# Altium footprint library PcbLib1.PcbLib: 4 footprints
Each footprint in its own frame and in the unit in brackets; x right, y up, seen from the top. Pads: shape width x height; smd on the part's side, far side on the other; paste and mask are expansions set on the pad; w line width, h text height; cw(c..) or ccw(c..) is an arc to the next point about the centre after c.
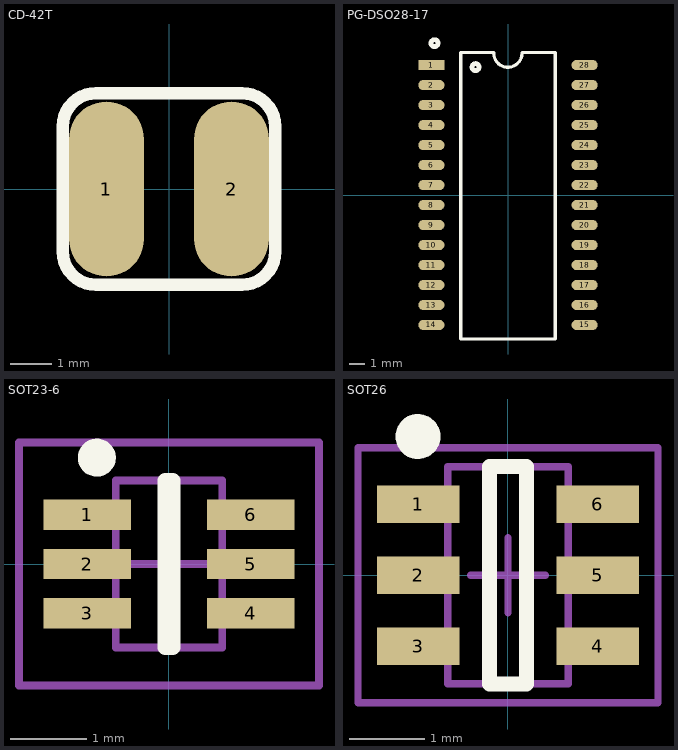
[diagram p0: the footprints below, top view; thin cyan lines are the x and y axes]

## CD-42T [mm]
pads (2):
  oval 1.8x4.2 smd: 1(-1.5,0) 2(1.5,0)
Top Overlay:
  lines w0.3: -2.55,-1.5 ccw(c-1.75,-1.5) -1.75,-2.3 -1.5,-2.3 1.5,-2.3 1.75,-2.3 ccw(c1.75,-1.5) 2.55,-1.5 2.55,1.5 ccw(c1.75,1.5) 1.75,2.3 1.5,2.3 -1.5,2.3 -1.75,2.3 ccw(c-1.75,1.5) -2.55,1.5 -2.55,-1.5

## PG-DSO28-17 [mm]
pads (28):
  rect 1.67x0.65 smd: 1(-4.865,8.255)
  oval 1.67x0.65 smd: 2(-4.865,6.985) 3(-4.865,5.715) 4(-4.865,4.445) 5(-4.865,3.175) 6(-4.865,1.905) 7(-4.865,0.635) 8(-4.865,-0.635) 9(-4.865,-1.905) 10(-4.865,-3.175) 11(-4.865,-4.445) 12(-4.865,-5.715) 13(-4.865,-6.985) 14(-4.865,-8.255) 15(4.865,-8.255) 16(4.865,-6.985) 17(4.865,-5.715) 18(4.865,-4.445) 19(4.865,-3.175) 20(4.865,-1.905) 21(4.865,-0.635) 22(4.865,0.635) 23(4.865,1.905) 24(4.865,3.175) 25(4.865,4.445) 26(4.865,5.715) 27(4.865,6.985) 28(4.865,8.255)
Top Overlay:
  circle w0.3: c-4.669,9.652 r0.224
  circle w0.3: c-2.062,8.128 r0.224
  lines w0.2: -0.907,9.017 ccw(c-0.009,9.017) 0.889,9.017 ; -0.907,9.055 -3,9.055 -3,-9.145 3,-9.145 3,9.055 0.889,9.055

## SOT23-6 [mm]
pads (6):
  rect 1.15x0.4 smd: 1(-1.077,0.65) 2(-1.077,0) 3(-1.077,-0.65) 4(1.077,-0.65) 5(1.077,0) 6(1.077,0.65)
Top Overlay:
  circle w0.25: c-0.95,1.4 r0.125
  lines w0.2: -0.05,-1.1 -0.05,1.1 0.05,1.1 0.05,-1.1 -0.05,-1.1
Mechanical 13:
  lines w0.1: -0.7,-1.1 0.7,-1.1 0.7,1.1 -0.7,1.1 -0.7,-1.1
Mechanical 15:
  lines w0.1: -0.5,0 0.5,0 ; 0,-0.5 0,0.5 ; -1.975,-1.6 1.975,-1.6 1.975,1.6 -1.975,1.6 -1.975,-1.6
3D body: height 1.1, standoff 0, extent -0.7,-1.1 0.7,1.1

## SOT26 [mm]
pads (6):
  rect 1.1x0.5 smd: 1(-1.2,0.95) 2(-1.2,0) 3(-1.2,-0.95) 4(1.2,-0.95) 5(1.2,0) 6(1.2,0.95)
Top Overlay:
  circle w0.3: c-1.2,1.85 r0.15
  lines w0.2: -0.25,-1.45 -0.25,1.45 0.25,1.45 0.25,-1.45 -0.25,-1.45
Mechanical 13:
  lines w0.1: -0.8,-1.45 0.8,-1.45 0.8,1.45 -0.8,1.45 -0.8,-1.45
Mechanical 15:
  lines w0.1: -0.5,0 0.5,0 ; 0,-0.5 0,0.5 ; -2,-1.7 2,-1.7 2,1.7 -2,1.7 -2,-1.7
3D body: height 1.45, standoff 0.05, extent -0.8,-1.45 0.8,1.45